# Altium schematic symbol library Driver_Receiver.SchLib: 2 symbols
Pins are listed as number, name and electrical type; pins without a type are passive.

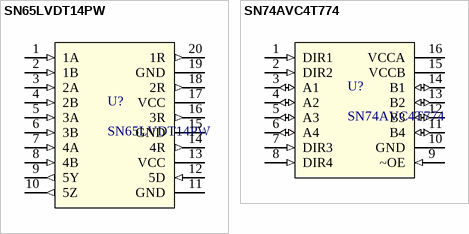
[diagram p0: symbols SN65LVDT14PW to SN74AVC4T774]

## SN65LVDT14PW
designator U?
IC DIFF DRVR/RCVR HS 20-TSSOP; Manufacturer: Texas Instruments; Protocol: LVDS; Number of Drivers/Receivers: 1/4; Duplex: Half; Data Rate: 125Mbps; Voltage - Supply: 3 V ~ 3.6 V; Supplier 1: Digi-Key; Supplier Part Number 1: 296-12736-5-ND; Manufacturer Part Number: SN65LVDT14PW; RoHS: RoHS Compliant; Category: Integrated Circuits (ICs); Stock 1: 122; Pricing 1: 1=6.6, 10=5.94, 50=5.412, 100=4.884, 250=4.488, 500=4.092, 750=3.7752, 1000=3.564 (USD); Packaging: Tube; Type: Transceiver; Receiver Hysteresis: -; Operating Temperature: -40°C ~ 85°C; Mounting Type: Surface Mount; Package / Case: 20-TSSOP (0.173", 4.40mm Width); Supplier Device Package: 20-TSSOP; ComponentLink1URL: http://www.ti.com/lit/ds/symlink/sn65lvdt41.pdf; ComponentLink1Description: http://www.ti.com/lit/ds/symlink/sn65lvdt41.pdf
footprint TSSOP-20 (12 Bit- Multiplying DAC with parallel interface)
pins: 1 1A (in), 2 1B (in), 3 2A (in), 4 2B (in), 5 3A (in), 6 3B (in), 7 4A (in), 8 4B (in), 9 5Y (out), 10 5Z (out), 11 GND (power), 12 5D (in), 13 VCC (power), 14 4R (out), 15 GND (power), 16 3R (out), 17 VCC (power), 18 2R (out), 19 GND (power), 20 1R (out)

## SN74AVC4T774
designator U?
4-Bit_Dual-Supply_Bus_Transceiver_16-TSSOP; Manufacturer 1: Texas Instruments; Manufacturer Part Number 1: SN65LVDT14PW; Protocol: LVDS; Number of Drivers/Receivers: 1/4; Duplex: Half; Data Rate: 125Mbps; Voltage - Supply: 3 V ~ 3.6 V; RoHS: RoHS Compliant; Category: Integrated Circuits (ICs); Packaging: Tube; Type: Transceiver; Receiver Hysteresis: -; Operating Temperature: -40°C ~ 85°C; Mounting Type: Surface Mount; Package / Case: 20-TSSOP (0.173", 4.40mm Width); Supplier Device Package: 20-TSSOP; ComponentLink1URL: http://www.ti.com/lit/ds/symlink/sn65lvdt41.pdf; ComponentLink1Description: http://www.ti.com/lit/ds/symlink/sn65lvdt41.pdf; Supplier 1: Digi-Key; Supplier Part Number 1: 296-24739-1-ND
footprint TSSOP-16
pins: 1 DIR1 (in), 2 DIR2 (in), 3 A1 (io), 4 A2 (io), 5 A3 (io), 6 A4 (io), 7 DIR3 (in), 8 DIR4 (in), 9 ~OE (in), 10 GND (power), 11 B4 (io), 12 B3 (io), 13 B2 (io), 14 B1 (io), 15 VCCB (power), 16 VCCA (power)